# Altium footprint library 1RGB-LED-Board_CR12xx-TESTBOARD.PcbLib: 24 footprints (part 1 of 2)
Each footprint in its own frame and in the unit in brackets; x right, y up, seen from the top. Pads: shape width x height; smd on the part's side, far side on the other; paste and mask are expansions set on the pad; w line width, h text height; cw(c..) or ccw(c..) is an arc to the next point about the centre after c.
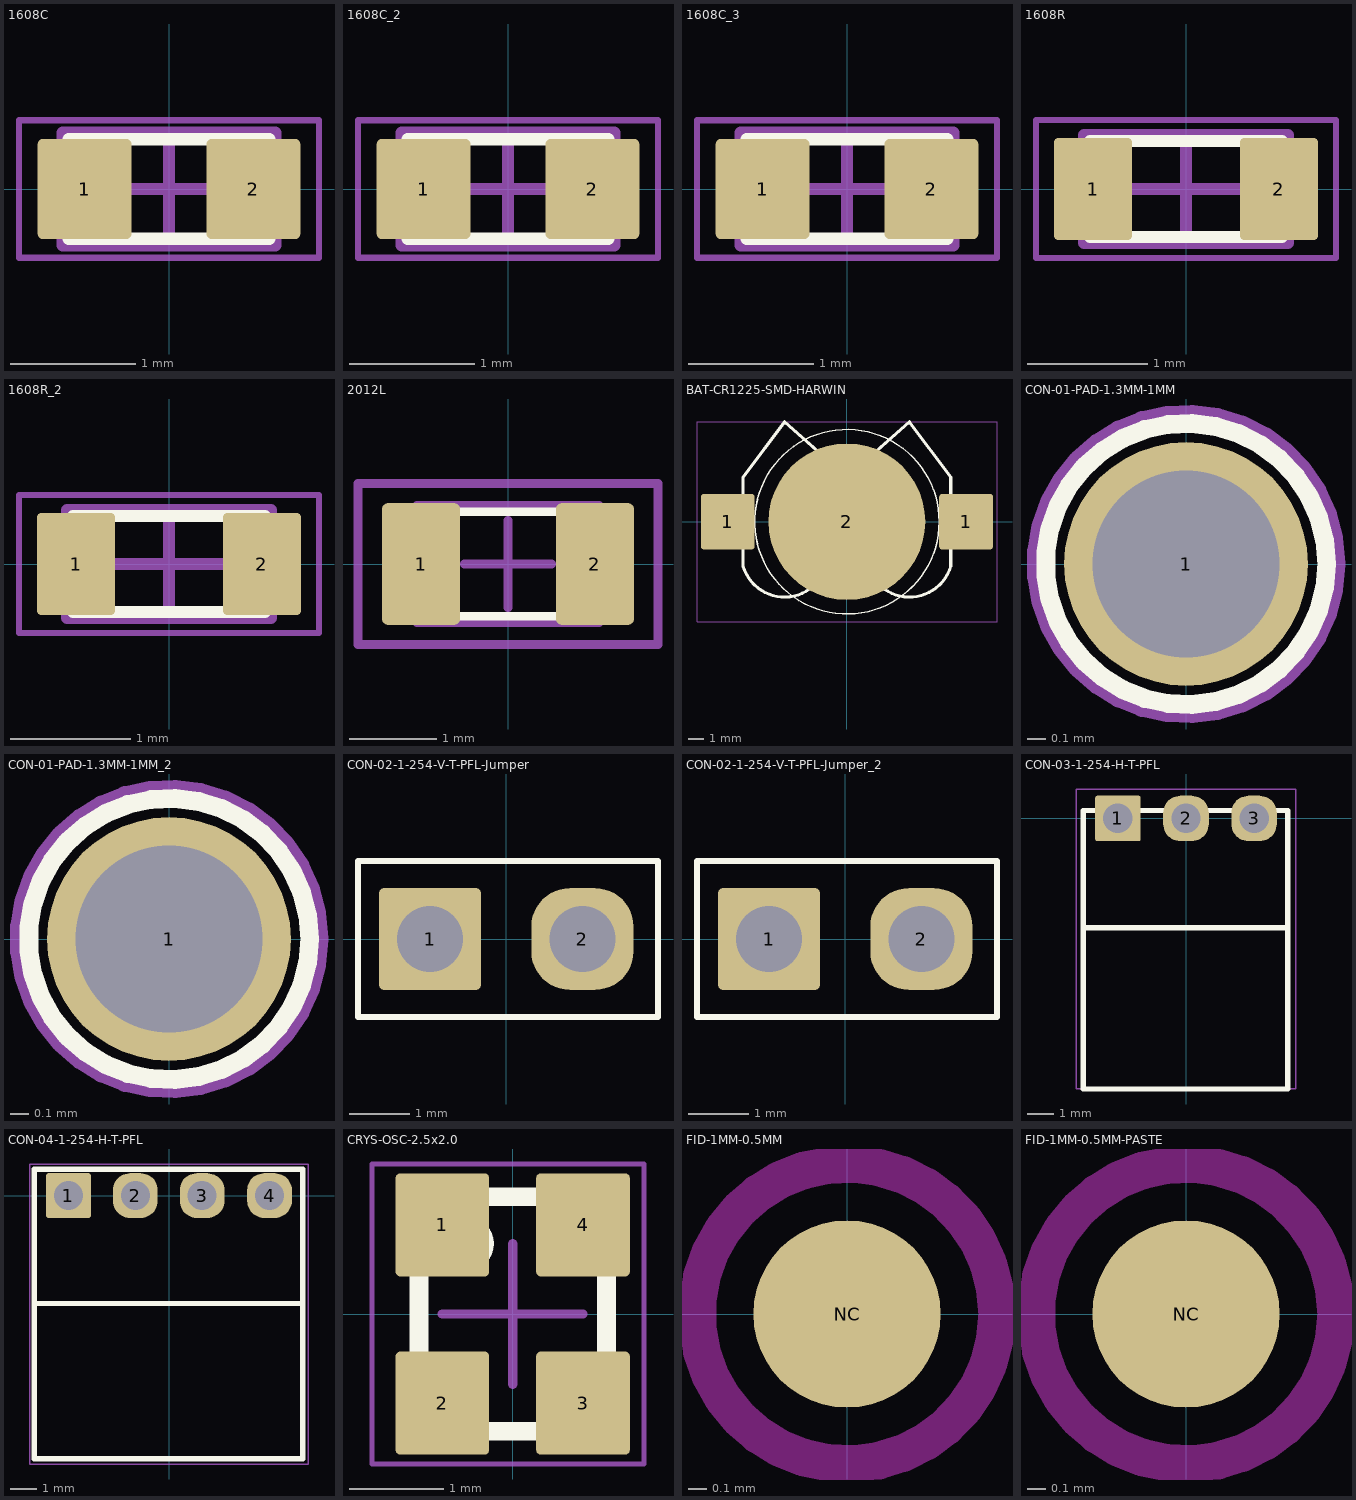
[diagram p0: the footprints below, top view; thin cyan lines are the x and y axes]

## 1608C [mm] "Chip Capacitor, 2-Leads, Body 1,6x0,8mm, IPC High Density"
height 0.9
pads (2):
  rrect10% 0.75x0.8 smd: 1(-0.675,0) 2(0.675,0)
Top Overlay:
  lines w0.1: -0.8,-0.4 0.8,-0.4 0.8,0.4 -0.8,0.4 -0.8,-0.4
Mechanical 13:
  lines w0.1: -0.85,-0.45 0.85,-0.45 0.85,0.45 -0.85,0.45 -0.85,-0.45
Mechanical 15:
  lines w0.05: -1.2,-0.55 1.2,-0.55 1.2,0.55 -1.2,0.55 -1.2,-0.55
  lines w0.1: -0.45,0 0.45,0 ; 0,-0.45 0,0.45
3D body "1608C.stp": height 0.79, standoff -0.01, extent -0.8,-0.4 0.8,0.4

## 1608C_2 [mm]
pads (2):
  rrect10% 0.75x0.8 smd: 1(-0.675,0) 2(0.675,0)
Top Overlay:
  lines w0.1: -0.8,-0.4 0.8,-0.4 0.8,0.4 -0.8,0.4 -0.8,-0.4
Mechanical 13:
  lines w0.1: -0.85,-0.45 0.85,-0.45 0.85,0.45 -0.85,0.45 -0.85,-0.45
Mechanical 15:
  lines w0.05: -1.2,-0.55 1.2,-0.55 1.2,0.55 -1.2,0.55 -1.2,-0.55
  lines w0.1: -0.45,0 0.45,0 ; 0,-0.45 0,0.45
3D body "1608C.stp": height 0.79, standoff -0.01, extent -0.8,-0.4 0.8,0.4

## 1608C_3 [mm]
pads (2):
  rrect10% 0.75x0.8 smd: 1(-0.675,0) 2(0.675,0)
Top Overlay:
  lines w0.1: -0.8,-0.4 0.8,-0.4 0.8,0.4 -0.8,0.4 -0.8,-0.4
Mechanical 13:
  lines w0.1: -0.85,-0.45 0.85,-0.45 0.85,0.45 -0.85,0.45 -0.85,-0.45
Mechanical 15:
  lines w0.05: -1.2,-0.55 1.2,-0.55 1.2,0.55 -1.2,0.55 -1.2,-0.55
  lines w0.1: -0.45,0 0.45,0 ; 0,-0.45 0,0.45
3D body "1608C.stp": height 0.79, standoff -0.01, extent -0.8,-0.4 0.8,0.4

## 1608R [mm] "Chip Resistor, 2-Leads, Body 1,6x0,8mm, IPC High Density"
height 0.55
pads (2):
  rrect10% 0.65x0.85 smd: 1(-0.775,0) 2(0.775,0)
Top Overlay:
  lines w0.1: -0.8,-0.4 -0.8,0.4 0.8,0.4 0.8,-0.4 -0.8,-0.4
Mechanical 13:
  lines w0.1: -0.85,-0.45 0.85,-0.45 0.85,0.45 -0.85,0.45 -0.85,-0.45
Mechanical 15:
  lines w0.05: -1.25,-0.575 1.25,-0.575 1.25,0.575 -1.25,0.575 -1.25,-0.575
  lines w0.1: -0.45,0 0.45,0 ; 0,-0.45 0,0.45
3D body "1608R.stp": height 0.45, standoff 0, extent -0.825,-0.425 0.825,0.425

## 1608R_2 [mm]
pads (2):
  rrect10% 0.65x0.85 smd: 1(-0.775,0) 2(0.775,0)
Top Overlay:
  lines w0.1: -0.8,-0.4 -0.8,0.4 0.8,0.4 0.8,-0.4 -0.8,-0.4
Mechanical 13:
  lines w0.1: -0.85,-0.45 0.85,-0.45 0.85,0.45 -0.85,0.45 -0.85,-0.45
Mechanical 15:
  lines w0.05: -1.25,-0.575 1.25,-0.575 1.25,0.575 -1.25,0.575 -1.25,-0.575
  lines w0.1: -0.45,0 0.45,0 ; 0,-0.45 0,0.45
3D body "1608R.stp": height 0.45, standoff 0, extent -0.825,-0.425 0.825,0.425

## 2012L [mm] "2012 Footprint mit 3D Model für Inductor"
height 1
pads (2):
  rrect15% 0.9x1.4 smd: 1(-1,0) 2(1,0)
Top Overlay:
  lines w0.1: -1,-0.6 -1,0.6 1,0.6 1,-0.6 -1,-0.6
Mechanical 13:
  lines w0.1: -1.05,-0.675 -1.05,0.675 1.05,0.675 1.05,-0.675 -1.05,-0.675
Mechanical 15:
  lines w0.1: -0.5,0 0.5,0 ; 0,-0.5 0,0.5 ; -1.725,-0.925 -1.725,0.925 1.725,0.925 1.725,-0.925 -1.725,-0.925
3D body "STEP-WE-CBF-0805-rev1.stp": height 0.9, standoff 0, extent -1,-0.6 1,0.6

## BAT-CR1225-SMD-HARWIN [mm]
height 3.2
pads (3):
  rrect10% 3.5x3.6 smd: 1(-7.75,0) 1(7.75,0)
  round 10.2 smd paste-8.75: 2(0,0)
Top Overlay:
  circle w0.1: c0,0 r6
  lines w0.2: -6.75,-2.9 ccw(c-4.061,-2.093) -2,-4 cw(c0,-7.75) 2,-4 ccw(c4.061,-2.093) 6.75,-2.9 6.75,2.9 4.061,6.5 0.762,3.576 cw(c0,4.338) -0.762,3.576 -4.061,6.5 -6.75,2.9 -6.75,-2.9
Mechanical 15:
  lines w0.05: -9.752,-6.5 0,-6.5 9.759,-6.5 9.759,6.5 -9.752,6.5 -9.752,-6.5
  lines w0.3: -0.5,0 0.5,0 ; 0,-0.5 0,0.5
3D body "s8201-46r.stp": height 3.21, standoff 0.01, extent -9.499,-4.936 9.5,6.883

## CON-01-PAD-1.3MM-1MM [mm]
pads (1):
  round 1.3 hole 1: 1(0,0)
Top Overlay:
  circle w0.1: c0,0 r0.75
Bottom Overlay:
  circle w0.1: c0,0 r0.75
Mechanical 15:
  circle w0.1: c0,0 r0.8
3D body: height 0.01, standoff 0, extent -0.65,-0.65 0.65,0.65
3D body: height 0.01, standoff 0, extent -0.65,-0.65 0.65,0.65

## CON-01-PAD-1.3MM-1MM_2 [mm]
pads (1):
  round 1.3 hole 1: 1(0,0)
Top Overlay:
  circle w0.1: c0,0 r0.75
Bottom Overlay:
  circle w0.1: c0,0 r0.75
Mechanical 15:
  circle w0.1: c0,0 r0.8
3D body: height 0.01, standoff 0, extent -0.65,-0.65 0.65,0.65
3D body: height 0.01, standoff 0, extent -0.65,-0.65 0.65,0.65

## CON-02-1-254-V-T-PFL-Jumper [mm] "Stiftleiste 2.54mm stehend"
pads (2):
  rrect10% 1.7x1.7 hole 1.1: 1(-1.27,0)
  rrect75% 1.7x1.7 hole 1.1: 2(1.27,0)
Top Overlay:
  lines w0.1: -2.47,-1.3 2.53,-1.3 2.53,1.3 -2.47,1.3 -2.47,-1.3
3D body "61300211121.stp": height 8.57, standoff -2.97, extent -2.51,-1.27 2.57,1.27
3D body "60900213421_BLACK.stp": height 8.69, standoff 2.71, extent -2.47,-1.12 2.53,1.32

## CON-02-1-254-V-T-PFL-Jumper_2 [mm]
pads (2):
  rrect10% 1.7x1.7 hole 1.1: 1(-1.27,0)
  rrect75% 1.7x1.7 hole 1.1: 2(1.27,0)
Top Overlay:
  lines w0.1: -2.47,-1.3 2.53,-1.3 2.53,1.3 -2.47,1.3 -2.47,-1.3
3D body "61300211121.stp": height 8.57, standoff -2.97, extent -2.51,-1.27 2.57,1.27
3D body "60900213421_BLACK.stp": height 8.69, standoff 2.71, extent -2.47,-1.12 2.53,1.32

## CON-03-1-254-H-T-PFL [mm]
pads (3):
  rrect10% 1.7x1.7 hole 1.1: 1(-2.54,0)
  rrect75% 1.7x1.7 hole 1.1: 2(0,0) 3(2.54,0)
Top Overlay:
  lines w0.2: -3.84,-4.082 3.8,-4.082 ; -3.84,-10.1 -3.84,0.3 3.8,0.3 3.8,-10.1 -3.84,-10.1
Mechanical 15:
  lines w0.05: -4.1,-10.1 4.1,-10.1 4.1,1.1 -4.1,1.1 -4.1,-10.1
  lines w0.1: -0.2,0 0.2,0 ; 0,-0.2 0,0.2
3D body "61300311021.stp": height 2.67, standoff -2.87, extent -3.85,-10.07 3.77,0.29

## CON-04-1-254-H-T-PFL [mm]
pads (4):
  rrect10% 1.7x1.7 hole 1.1: 1(-3.82,0)
  rrect75% 1.7x1.7 hole 1.1: 2(-1.28,0) 3(1.26,0) 4(3.82,0)
Top Overlay:
  lines w0.2: -5.12,-4.1 5.08,-4.1 5.08,-1.418 ; -5.12,-10 5.08,-10 5.08,1 -5.12,1 -5.12,-10
Mechanical 15:
  lines w0.05: -5.3,-10.2 -5.3,1.2 5.3,1.2 5.3,-10.2 -5.3,-10.2
3D body "61300411021.stp": height 2.55, standoff -2.99, extent -5.08,-10.07 5.08,0.29

## CRYS-OSC-2.5x2.0 [mm] "Standard Crystal Oscillator"
pads (4):
  rrect10% 1x1.1 smd: 1(-0.75,0.95) 2(-0.75,-0.95) 3(0.75,-0.95) 4(0.75,0.95)
Top Overlay:
  circle w0.3: c-0.5,0.75 r0.15
  lines w0.2: -1,-1.25 1,-1.25 1,1.25 -1,1.25 -1,-1.25
Mechanical 15:
  lines w0.05: -1.5,-1.6 -1.5,1.6 1.4,1.6 1.4,-1.6 -1.5,-1.6
  lines w0.1: -0.75,0 0.75,0 ; 0,-0.75 0,0.75
3D body "SX-22.stp": height 0.76, standoff 0.01, extent -1,-1.25 1,1.25

## FID-1MM-0.5MM [mm] "1mm fiducial with 0.5mm clearance"
pads (1):
  round 1 smd paste-1: NC(0,0)
Top Layer keep-out:
  circle w0.2: c0,0 r0.8

## FID-1MM-0.5MM-PASTE [mm] "1mm fiducial with 0.5mm clearance"
pads (1):
  round 1 smd paste+0.1: NC(0,0)
Top Layer keep-out:
  circle w0.2: c0,0 r0.8